# Altium footprint library SnapEDApcb.PcbLib: 1 footprints
Each footprint in its own frame and in the unit in brackets; x right, y up, seen from the top. Pads: shape width x height; smd on the part's side, far side on the other; paste and mask are expansions set on the pad; w line width, h text height; cw(c..) or ccw(c..) is an arc to the next point about the centre after c.
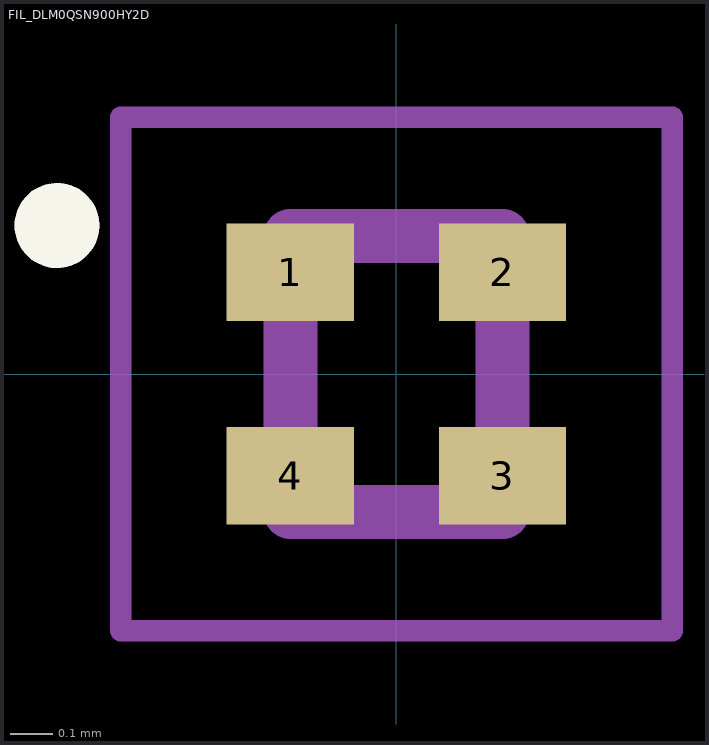
[diagram p0: the footprint, top view; thin cyan lines are the x and y axes]

## FIL_DLM0QSN900HY2D [mm]
pads (4):
  rect 0.3x0.23 smd mask+0: 1(-0.25,0.24) 2(0.25,0.24) 3(0.25,-0.24) 4(-0.25,-0.24)
Top Overlay:
  circle w0.1: c-0.8,0.35 r0.05
Top Solder:
  region: -0.1,0.125 -0.4,0.125 -0.4,0.355 -0.1,0.355
  region: 0.4,0.125 0.1,0.125 0.1,0.355 0.4,0.355
  region: 0.4,-0.355 0.1,-0.355 0.1,-0.125 0.4,-0.125
  region: -0.1,-0.355 -0.4,-0.355 -0.4,-0.125 -0.1,-0.125
Mechanical 13:
  circle w0.1: c-0.8,0.35 r0.05
  lines w0.127: -0.25,-0.325 -0.25,0.325 0.25,0.325 0.25,-0.325 -0.25,-0.325
Mechanical 15:
  lines w0.05: -0.65,-0.605 0.65,-0.605 0.65,0.605 -0.65,0.605 -0.65,-0.605